# EAGLE library part *08 (library digital)
74xx08: Quad 2-input AND gate
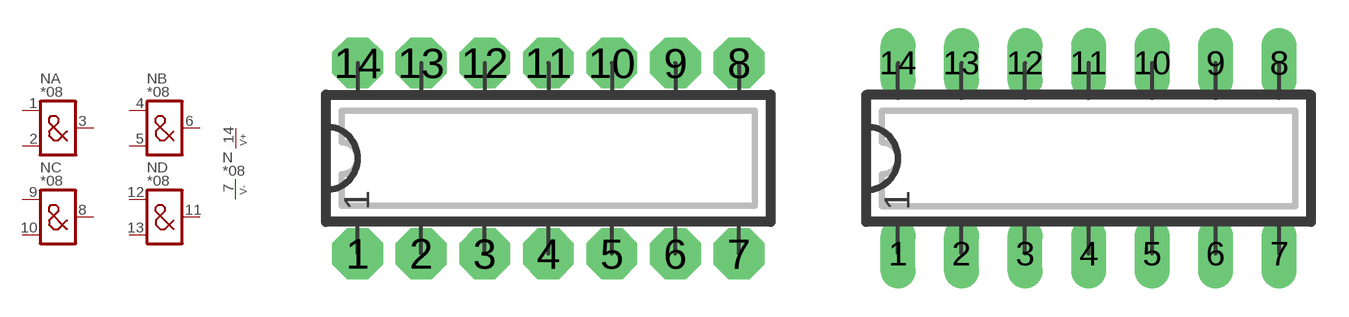
[diagram p6: symbol with the pads of DIP14N; footprints DIP14N, DIP14L]

Designator prefix N; gates A=AND2 B=AND2 C=AND2 D=AND2 P=V+-

## 7408N, 74AC08N, 74ACT08N, 74ALS08N, 74AS08N, 74C08N, 74HC08N, 74HCT08N, 74L08N, 74LS08N, 74S08N  [DIP14N]
1  A:I1  in
2  A:I2  in
3  A:O  out
4  B:I1  in
5  B:I2  in
6  B:O  out
7  P:V-  pwr
8  C:O  out
9  C:I1  in
10  C:I2  in
11  D:O  out
12  D:I1  in
13  D:I2  in
14  P:V+  pwr

## 7408, 74AC08, 74ACT08, 74ALS08, 74AS08, 74C08, 74HC08, 74HCT08, 74L08, 74LS08, 74S08  [DIP14L]
Pads as for DIP14N

## 7408L, 74AC08L, 74ACT08L, 74ALS08L, 74AS08L, 74C08L, 74HC08L, 74HCT08L, 74L08L, 74LS08L, 74S08L  [DIP14L]
Pads as for DIP14N

## 7408R, 74AC08R, 74ACT08R, 74ALS08R, 74AS08R, 74C08R, 74HC08R, 74HCT08R, 74L08R, 74LS08R, 74S08R  [DIP14R]
Pads as for DIP14N

## 74AC08S, 74ACT08S, 74HC08S, 74HCT08S  [SO14]
Pads as for DIP14N

## Footprint DIP14N (pad centres in mm)
DIP-14 Standard IC package, 14 pins
drill 0.813 pad 2.032 octagon: 1 0,0; 2 2.54,0; 3 5.08,0; 4 7.62,0; 5 10.16,0; 6 12.7,0; 7 15.24,0; 8 15.24,7.62; 9 12.7,7.62; 10 10.16,7.62; 11 7.62,7.62; 12 5.08,7.62; 13 2.54,7.62; 14 0,7.62

## Footprint DIP14L (pad centres in mm)
DIP-14, long pads Standard IC package, 14 pins
drill 0.813 pad 1.397 long: 1 0,0; 2 2.54,0; 3 5.08,0; 4 7.62,0; 5 10.16,0; 6 12.7,0; 7 15.24,0; 8 15.24,7.62; 9 12.7,7.62; 10 10.16,7.62; 11 7.62,7.62; 12 5.08,7.62; 13 2.54,7.62; 14 0,7.62

## Footprint DIP14R (pad centres in mm)
DIP-14, reduced pads Standard IC package, 14 pins
drill 0.813 pad 1.397 square: 1 0,0; 2 2.54,0; 3 5.08,0; 4 7.62,0; 5 10.16,0; 6 12.7,0; 7 15.24,0; 8 15.24,7.62; 9 12.7,7.62; 10 10.16,7.62; 11 7.62,7.62; 12 5.08,7.62; 13 2.54,7.62; 14 0,7.62

## Footprint SO14 (pad centres in mm)
SO-14, SMD SOIC IC package, 14 pins
smd 0.635 x 1.778: 1 -3.81,-2.857; 2 -2.54,-2.857; 3 -1.27,-2.857; 4 0,-2.857; 5 1.27,-2.857; 6 2.54,-2.857; 7 3.81,-2.857; 8 3.81,2.857; 9 2.54,2.857; 10 1.27,2.857; 11 0,2.857; 12 -1.27,2.857; 13 -2.54,2.857; 14 -3.81,2.857